# EAGLE library part 2X4IDC (library GW-devices)
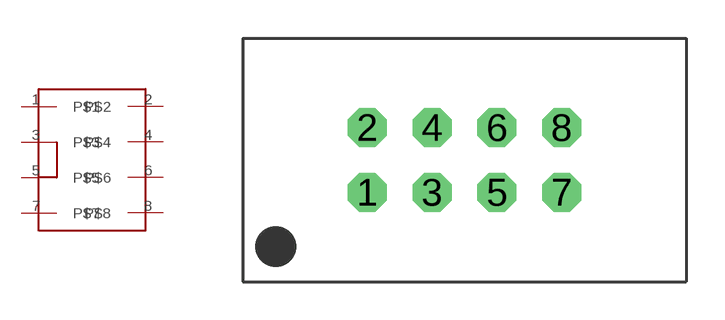
[diagram p58: symbol with the pads of 2X04; footprint 2X04]

Designator prefix -

## 2X4IDC (MPN: 75869-132LF)  [2X04]
1  P$1
2  P$2
3  P$3
4  P$4
5  P$5
6  P$6
7  P$7
8  P$8

## Footprint 2X04 (pad centres in mm)
PIN HEADER
drill 1.016 octagon: 1 -3.81,-1.27; 2 -3.81,1.27; 3 -1.27,-1.27; 4 -1.27,1.27; 5 1.27,-1.27; 6 1.27,1.27; 7 3.81,-1.27; 8 3.81,1.27